# Altium footprint library Miscellaneous Header.PcbLib: 29 footprints (part 1 of 2)
Each footprint in its own frame and in the unit in brackets; x right, y up, seen from the top. Pads: shape width x height; smd on the part's side, far side on the other; paste and mask are expansions set on the pad; w line width, h text height; cw(c..) or ccw(c..) is an arc to the next point about the centre after c.
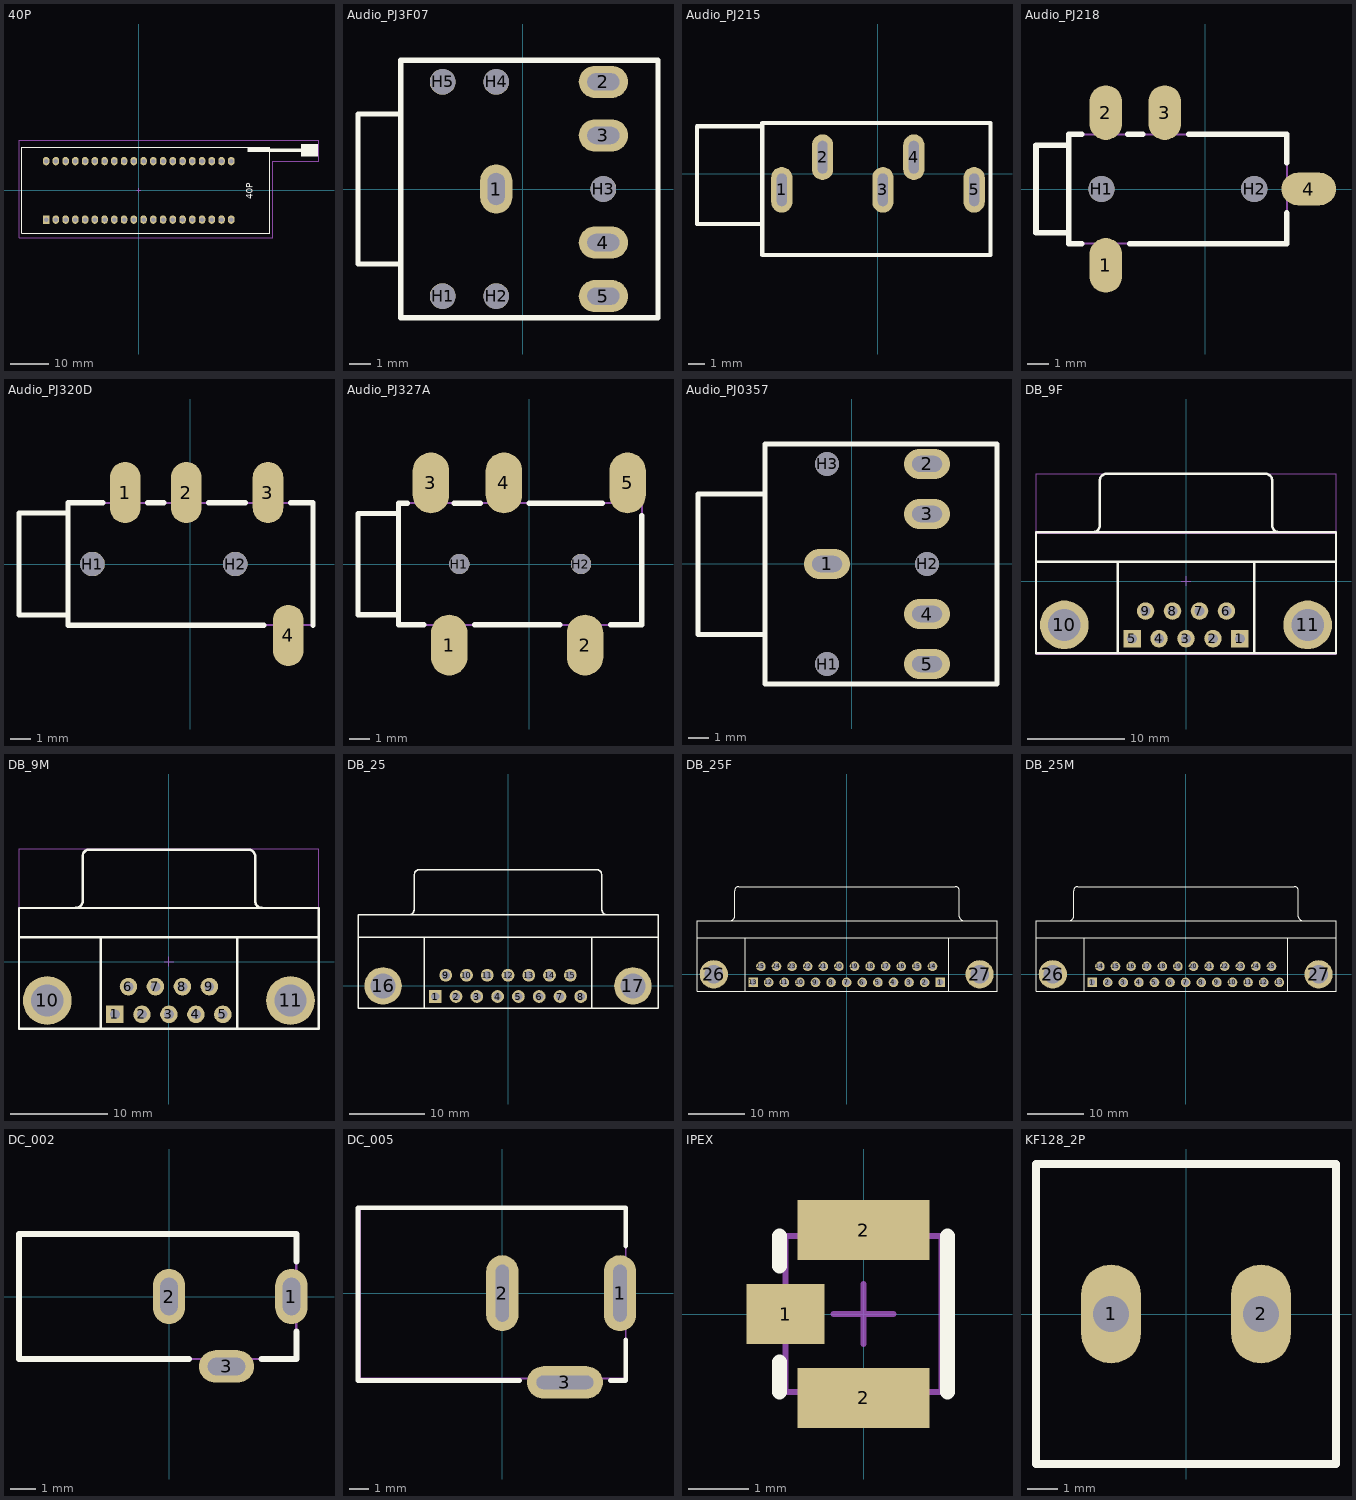
[diagram p0: the footprints below, top view; thin cyan lines are the x and y axes]

## 40P [mm]
pads (40):
  rect 1.7x2.2 hole 1.2: 1(-24.13,-7.62)
  oval 1.7x2.2 hole 1.2: 2(-21.59,-7.62) 3(-19.05,-7.62) 4(-16.51,-7.62) 5(-13.97,-7.62) 6(-11.43,-7.62) 7(-8.89,-7.62) 8(-6.35,-7.62) 9(-3.81,-7.62) 10(-1.27,-7.62) 11(1.27,-7.62) 12(3.81,-7.62) 13(6.35,-7.62) 14(8.89,-7.62) 15(11.43,-7.62) 16(13.97,-7.62) 17(16.51,-7.62) 18(19.05,-7.62) 19(21.59,-7.62) 20(24.13,-7.62) 21(24.13,7.62) 22(21.59,7.62) 23(19.05,7.62) 24(16.51,7.62) 25(13.97,7.62) 26(11.43,7.62) 27(8.89,7.62) 28(6.35,7.62) 29(3.81,7.62) 30(1.27,7.62) 31(-1.27,7.62) 32(-3.81,7.62) 33(-6.35,7.62) 34(-8.89,7.62) 35(-11.43,7.62) 36(-13.97,7.62) 37(-16.51,7.62) 38(-19.05,7.62) 39(-21.59,7.62) 40(-24.13,7.62)
Top Overlay:
  rectangle: 42.278,8.849 46.678,12.049
  rectangle: 28.378,9.949 34.178,11.249
  lines w0.254: 34.2,11.249 -30.422,11.249 -30.422,-11.2 34.225,-11.2 34.225,11.224
  lines w0.8: 34.225,10.449 44.178,10.449
  text "40P" at 30.378,-2.351 h3
Mechanical 15:
  lines w0.1: -0.5,0 0.5,0 ; 0,-0.5 0,0.5 ; -31.2,-12.4 -31.2,13.1 47,13.1 47,7.6 34.9,7.6 34.9,-12.4 -31.2,-12.4
3D body "ZIF-40.STEP": height 12, standoff -4, extent -30.422,-11.584 46.769,12.282

## Audio_PJ3F07 [mm]
pads (10):
  oval 1.5x2.3 hole 0.8 slot 1.5 at 90 deg: 1(-1.25,0)
  oval 2.3x1.5 hole 0.8 slot 1.5 at 0 deg: 2(3.75,5) 3(3.75,2.5) 4(3.75,-2.5) 5(3.75,-5)
  round 1.2 hole 1.2: H1(-3.75,-5) H2(-1.25,-5) H3(3.75,0) H4(-1.25,5) H5(-3.75,5)
Top Overlay:
  lines w0.254: -5.7,-3.5 -7.7,-3.5 -7.7,3.5 -5.7,3.5 ; -5.7,-6 6.3,-6 6.3,6 -5.7,6 -5.7,-6
Mechanical 15:
  lines w0.1: -5.7,-3.5 -7.7,-3.5 -7.7,3.5 -5.7,3.5 ; -5.7,-6 6.3,-6 6.3,6 -5.7,6 -5.7,-6
3D body "PJS_05_LB_H.STEP": height 10.05, standoff -4.08, extent -7.75,-6 7.25,6

## Audio_PJ215 [mm]
pads (5):
  oval 1.3x2.8 hole 0.6 slot 2 at 90 deg: 1(-5.9,-1) 2(-3.4,1) 3(0.3,-1) 4(2.2,1) 5(5.9,-1)
Top Overlay:
  lines w0.254: -7.1,-3.1 -11.1,-3.1 -11.1,2.9 -7.1,2.9 ; -7.1,-5 6.9,-5 6.9,3.1 -7.1,3.1 -7.1,-5
Mechanical 15:
  lines w0.1: -7.1,-3.1 -11.1,-3.1 -11.1,2.9 -7.1,2.9 ; -7.1,-5 6.9,-5 6.9,3.1 -7.1,3.1 -7.1,-5
3D body "Audio-PJ215.step": height 11.5, standoff -2.62, extent -11.085,-5 6.885,3.1

## Audio_PJ218 [mm]
pads (6):
  oval 1.5x2.5 smd: 1(-4.55,-3.5) 2(-4.55,3.5) 3(-1.85,3.5)
  oval 2.5x1.5 smd: 4(4.75,0)
  round 1.2 hole 1.2: H1(-4.75,0) H2(2.25,0)
Top Overlay:
  lines w0.254: -6.25,-2 -7.75,-2 -7.75,2 -6.25,2 ; -5.65,-2.5 -6.25,-2.5 -6.25,2.5 -5.65,2.5 ; -3.55,2.5 -2.85,2.5 ; -3.45,-2.5 3.75,-2.5 3.75,-1.1 ; -0.75,2.5 3.75,2.5 3.75,1.2
Mechanical 15:
  lines w0.1: -6.25,-2 -7.75,-2 -7.75,2 -6.25,2 ; -6.25,-2.5 3.75,-2.5 3.75,2.5 -6.25,2.5 -6.25,-2.5
3D body "JY2512.step": height 4, standoff -0.8, extent -7.75,-4 5.25,4

## Audio_PJ320D [mm]
pads (6):
  oval 1.5x3 smd: 1(-3.2,3.5) 2(-0.2,3.5) 3(3.8,3.5) 4(4.8,-3.5)
  round 1.2 hole 1.2: H1(-4.8,0) H2(2.2,0)
Top Overlay:
  lines w0.254: -6,-2.5 -8.4,-2.5 -8.4,2.5 -6,2.5 ; -4.3,3 -6,3 -6,-3 3.6,-3 ; -2.1,3 -1.3,3 ; 0.9,3 2.7,3 ; 4.9,3 6,3 6,-3
Mechanical 15:
  lines w0.1: -6,-2.5 -8.4,-2.5 -8.4,2.5 -6,2.5 ; -6,-3 -6,3 6,3 6,-3 -6,-3
3D body "Audio-PJ320D.step": height 5.4, standoff -0.4, extent -8.3,-4.1 6.7,4.2

## Audio_PJ327A [mm]
pads (7):
  oval 1.8x3 smd: 1(-3.95,-4) 2(2.75,-4) 3(-4.85,4) 4(-1.25,4) 5(4.85,4)
  round 1 hole 1: H1(-3.45,0) H2(2.55,0)
Top Overlay:
  lines w0.254: -6.45,-2.5 -8.45,-2.5 -8.45,2.5 -6.45,2.5 ; -6,3 -6.45,3 -6.45,-3 -5.2,-3 ; -3.7,3 -2.4,3 ; -2.7,-3 1.5,-3 ; 0,3 3.6,3 ; 4,-3 5.55,-3 5.55,2.4
Mechanical 15:
  lines w0.1: -6.45,-2.5 -8.45,-2.5 -8.45,2.5 -6.45,2.5 ; -6.45,-3 5.55,-3 5.55,3 -6.45,3 -6.45,-3

## Audio_PJ0357 [mm]
pads (8):
  oval 2.3x1.5 hole 0.8 slot 1.5 at 0 deg: 1(-1.25,0) 2(3.75,5) 3(3.75,2.5) 4(3.75,-2.5) 5(3.75,-5)
  round 1.2 hole 1.2: H1(-1.25,-5) H2(3.75,0) H3(-1.25,5)
Top Overlay:
  lines w0.254: -4.35,-3.525 -7.7,-3.525 -7.7,3.5 -4.35,3.5 ; -4.35,-6 7.25,-6 7.25,6 -4.35,6 -4.35,-6
Mechanical 15:
  lines w0.1: -4.35,-3.525 -7.75,-3.525 -7.75,3.5 -4.35,3.5 ; -4.35,-6 7.25,-6 7.25,6 -4.35,6 -4.35,-6
3D body "PJS_05_LB_H.STEP": height 10.05, standoff -4.08, extent -7.75,-6 7.25,6

## DB_9F [mm]
pads (11):
  rect 1.8x1.8 hole 1: 1(5.54,-5.92) 5(-5.54,-5.92)
  round 1.8 hole 1: 2(2.77,-5.92) 3(0,-5.92) 4(-2.77,-5.92) 6(4.155,-3.08) 7(1.385,-3.08) 8(-1.385,-3.08) 9(-4.155,-3.08)
  round 5 hole 3.3: 10(-12.495,-4.5) 11(12.495,-4.5)
Top Overlay:
  lines w0.254: -15.4,2 15.4,2 ; -9.56,5.005 ccw(c-9.56,5.7) -8.865,5.7 -8.865,10.3 ; -8.86,10.305 cw(c-8.165,10.305) -8.165,11 8.165,11 cw(c8.165,10.305) 8.86,10.305 ; -7,-7.4 -7,2 ; 7,-7.4 7,2 ; 8.865,10.3 8.865,5.7 ccw(c9.56,5.7) 9.56,5.005 ; -15.4,-7.4 15.4,-7.4 15.4,5 -15.4,5 -15.4,-7.4
Mechanical 15:
  lines w0.1: -0.5,0 0.5,0 ; 0,-0.5 0,0.5 ; -15.4,4.9 -15.4,11 15.4,11 15.4,4.9 ; -15.4,4.9 -15.4,-7.5 15.4,-7.5 15.4,4.9 ; -15.4,4.9 15.4,4.9
3D body "DB9-Female.STEP": height 12.77, standoff -3.65, extent -15.383,-7.434 15.417,10.966

## DB_9M [mm]
pads (11):
  rect 1.8x1.8 hole 1: 1(-5.54,-5.42)
  round 1.8 hole 1: 2(-2.77,-5.42) 3(0,-5.42) 4(2.77,-5.42) 5(5.54,-5.42) 6(-4.155,-2.58) 7(-1.385,-2.58) 8(1.385,-2.58) 9(4.155,-2.58)
  round 5 hole 3.3: 10(-12.495,-4) 11(12.495,-4)
Top Overlay:
  lines w0.254: -15.4,2.5 15.4,2.5 ; -9.56,5.505 ccw(c-9.56,6.2) -8.865,6.2 -8.865,10.8 ; -8.86,10.805 cw(c-8.165,10.805) -8.165,11.5 8.165,11.5 cw(c8.165,10.805) 8.86,10.805 ; -7,-6.9 -7,2.5 ; 7,-6.9 7,2.5 ; 8.865,10.8 8.865,6.2 ccw(c9.56,6.2) 9.56,5.505 ; -15.4,-6.9 15.4,-6.9 15.4,5.5 -15.4,5.5 -15.4,-6.9
Mechanical 15:
  lines w0.1: -0.5,0 0.5,0 ; 0,-0.5 0,0.5 ; -15.383,5.466 -15.383,11.566 15.417,11.566 15.417,5.466 ; -15.383,5.466 -15.383,-6.934 15.417,-6.934 15.417,5.466 ; -15.383,5.466 15.417,5.466
3D body "DB9-Male.STEP": height 12.55, standoff -3.85, extent -15.183,-7.134 15.317,9.566

## DB_25 [mm]
pads (17):
  rect 1.7x1.7 hole 1.1: 1(-9.695,-1.42)
  round 1.7 hole 1.1: 2(-6.925,-1.42) 3(-4.155,-1.42) 4(-1.385,-1.42) 5(1.385,-1.42) 6(4.155,-1.42) 7(6.925,-1.42) 8(9.695,-1.42) 9(-8.31,1.42) 10(-5.54,1.42) 11(-2.77,1.42) 12(0,1.42) 13(2.77,1.42) 14(5.54,1.42) 15(8.31,1.42)
  round 5 hole 3.3: 16(-16.66,0) 17(16.66,0)
Top Overlay:
  lines w0.2: -20,6.5 20,6.5 ; -13.195,9.505 ccw(c-13.195,10.2) -12.5,10.2 -12.5,14.8 ; -12.495,14.805 cw(c-11.8,14.805) -11.8,15.5 11.8,15.5 cw(c11.8,14.805) 12.495,14.805 ; -11.14,-3 -11.14,6.5 ; 11.14,-3 11.14,6.5 ; 12.5,14.8 12.5,10.2 ccw(c13.195,10.2) 13.195,9.505 ; -20,-3 20,-3 20,9.5 -20,9.5 -20,-3
3D body "DB-15F.step": height 12.65, standoff -4.72, extent -19.515,-3.474 19.515,15.7

## DB_25F [mm]
pads (27):
  rect 1.7x1.7 hole 1.1: 1(16.566,-1.42) 13(-16.566,-1.42)
  round 1.7 hole 1.1: 2(13.805,-1.42) 3(11.044,-1.42) 4(8.283,-1.42) 5(5.522,-1.42) 6(2.761,-1.42) 7(0,-1.42) 8(-2.761,-1.42) 9(-5.522,-1.42) 10(-8.283,-1.42) 11(-11.044,-1.42) 12(-13.805,-1.42) 14(15.186,1.42) 15(12.425,1.42) 16(9.664,1.42) 17(6.903,1.42) 18(4.142,1.42) 19(1.381,1.42) 20(-1.38,1.42) 21(-4.141,1.42) 22(-6.902,1.42) 23(-9.663,1.42) 24(-12.424,1.42) 25(-15.185,1.42)
  round 5 hole 3.3: 26(-23.526,0) 27(23.526,0)
Top Overlay:
  lines w0.2: -26.496,6.5 26.604,6.5 ; -20.541,9.505 ccw(c-20.541,10.2) -19.846,10.2 -19.846,14.8 ; -19.841,14.805 cw(c-19.146,14.805) -19.146,15.5 19.254,15.5 cw(c19.254,14.805) 19.949,14.805 ; -17.946,-3 -17.946,6.5 ; 18.054,-3 18.054,6.5 ; 19.954,14.8 19.954,10.2 ccw(c20.649,10.2) 20.649,9.505 ; -26.496,-3 -26.496,9.5 26.604,9.5 26.604,-3 -26.496,-3
3D body "DB-25FB.STEP": height 12.5, standoff -4.66, extent -26.55,-2.9 26.55,15.504

## DB_25M [mm]
pads (27):
  rect 1.7x1.7 hole 1.1: 1(-16.566,-1.42)
  round 1.7 hole 1.1: 2(-13.805,-1.42) 3(-11.044,-1.42) 4(-8.283,-1.42) 5(-5.522,-1.42) 6(-2.761,-1.42) 7(0,-1.42) 8(2.761,-1.42) 9(5.522,-1.42) 10(8.283,-1.42) 11(11.044,-1.42) 12(13.805,-1.42) 13(16.566,-1.42) 14(-15.185,1.42) 15(-12.424,1.42) 16(-9.663,1.42) 17(-6.902,1.42) 18(-4.141,1.42) 19(-1.38,1.42) 20(1.381,1.42) 21(4.142,1.42) 22(6.903,1.42) 23(9.664,1.42) 24(12.425,1.42) 25(15.186,1.42)
  round 5 hole 3.3: 26(-23.526,0) 27(23.526,0)
Top Overlay:
  lines w0.2: -26.496,6.5 26.604,6.5 ; -20.541,9.505 ccw(c-20.541,10.2) -19.846,10.2 -19.846,14.8 ; -19.841,14.805 cw(c-19.146,14.805) -19.146,15.5 19.254,15.5 cw(c19.254,14.805) 19.949,14.805 ; -17.946,-3 -17.946,6.5 ; 18.054,-3 18.054,6.5 ; 19.954,14.8 19.954,10.2 ccw(c20.649,10.2) 20.649,9.505 ; -26.496,-3 26.604,-3 26.604,9.5 -26.496,9.5 -26.496,-3
3D body "DB25-F.STEP": height 13.28, standoff -3.87, extent -26.52,-3.1 26.52,17.4

## DC_002 [mm]
pads (3):
  oval 1.3x2.2 hole 0.7 slot 1.5 at 90 deg: 1(4.9,0) 2(0,0)
  oval 2.2x1.3 hole 0.7 slot 1.5 at 0 deg: 3(2.3,-2.8)
Top Overlay:
  lines w0.254: 0.8,-2.5 -6,-2.5 -6,2.5 5.1,2.5 5.1,1.4 ; 3.7,-2.5 5.1,-2.5 5.1,-1.4
Mechanical 15:
  lines w0.1: -6,-2.5 5.1,-2.5 5.1,2.5 -6,2.5 -6,-2.5
3D body "DC-3.5.step": height 7.2, standoff -3, extent -6.05,-2.95 5.05,2.5

## DC_005 [mm]
pads (3):
  oval 1.7x4 hole 0.7 slot 3 at 90 deg: 1(6.2,0) 2(0,0)
  oval 4x1.7 hole 0.7 slot 3 at 0 deg: 3(3.3,-4.7)
Top Overlay:
  lines w0.254: 0.9,-4.6 -7.6,-4.6 -7.6,4.5 6.5,4.5 6.5,2.482 ; 5.7,-4.6 6.5,-4.6 6.5,-2.457
Mechanical 15:
  lines w0.1: -7.5,-4.5 6.5,-4.5 6.5,4.5 -7.5,4.5 -7.5,-4.5
3D body "5V DC-2mm.STEP": height 11.18, standoff -3.6, extent -7.539,-4.9 6.939,4.572

## IPEX [mm]
pads (3):
  rect 1.3x1 smd: 1(-1.3,0)
  rect 2.2x1 smd: 2(0,-1.4) 2(0,1.4)
Top Overlay:
  lines w0.254: -1.4,-1.3 -1.4,-0.8 ; -1.4,0.8 -1.4,1.3 ; 1.4,-1.3 1.4,1.3
Mechanical 15:
  lines w0.1: -0.5,0 0.5,0 ; 0,-0.5 0,0.5 ; -1.3,-1.3 1.3,-1.3 1.3,1.3 -1.3,1.3 -1.3,-1.3
3D body "U.FL-R-SMT(10).STEP": height 1.25, standoff 0, extent -1.55,-1.5 1.55,1.5

## KF128_2P [mm]
pads (2):
  oval 2x3.3 hole 1.2: 1(-2.5,0) 2(2.5,0)
Top Overlay:
  lines w0.254: -5,-5 -5,5 5,5 5,-5 -5,-5
Mechanical 15:
  lines w0.1: -5,-5 -5,5 5,5 5,-5 -5,-5
3D body "DG128-5.08-2P.STEP": height 14.1, standoff -4.18, extent -5.5,-5.1 5.16,4.9